# EAGLE library part 01STANDARD_PQ3220_THT_V_12PIN (library Wurth Electronics Midcom Inc V1-0)
Package Style: Standard PQ3220 Mounting: THT Pins: 12 pins Bobbin: 070-5050 Best pinouts for production vary per application. Please contact Wurth Electronics Midcom, Inc. for assistance with your custom design. Website: Wurth Electronics Midcom <http://www.we-online.com/midcom> Contact us Wurth Electronics Midcom, Inc. 121 Airport Dr. Watertown, SD 57201 Phone: (605) 886-4385 Fax: (605) 886-4486 E-Mail: midcom@we-online.com
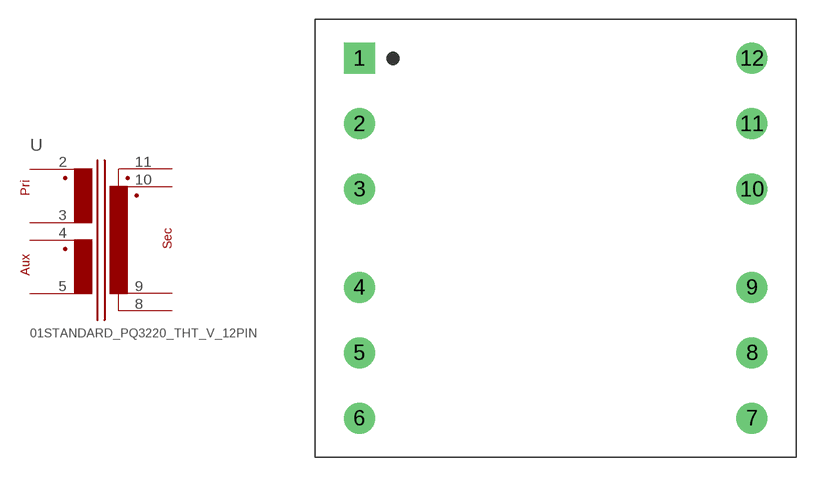
[diagram p192: symbol with the pads of 01STANDARD_PQ3220_THT_V_12PIN; footprint 01STANDARD_PQ3220_THT_V_12PIN]

Designator prefix -

## 01STANDARD_PQ3220_THT_V_12PIN  [01STANDARD_PQ3220_THT_V_12PIN]
2  1  pas
3  2  pas
4  3  pas
5  4  pas
8  6  pas
9  8  pas
10  7  pas
11  5  pas

## Footprint 01STANDARD_PQ3220_THT_V_12PIN (pad centres in mm)
Package Style: Speedy PQ3220 Mounting: THT Pins: 12 pins Bobbin: 070-5050
drill 1.6 square: 1 -15.24,13.97
drill 1.6 round: 2 -15.24,8.89; 3 -15.24,3.81; 4 -15.24,-3.81; 5 -15.24,-8.89; 6 -15.24,-13.97; 7 15.24,-13.97; 8 15.24,-8.89; 9 15.24,-3.81; 10 15.24,3.81; 11 15.24,8.89; 12 15.24,13.97